# EAGLE library part 4-7SEG (library ioshub)
3461AS 4 Digit 7 segment Display
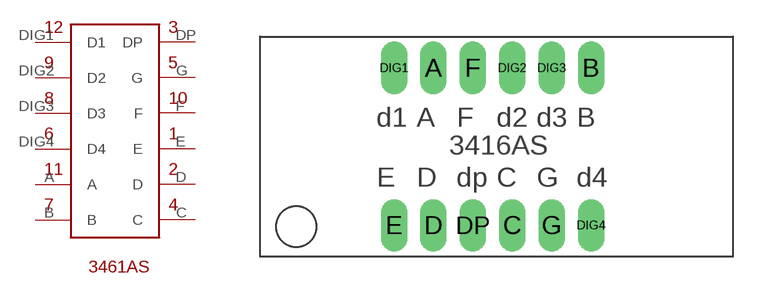
[diagram p3: symbol with the pads of 4-7SEG; footprint 4-7SEG]

Designator prefix -

## 4-7SEG3461AS  [4-7SEG]
A  A
B  B
C  C
D  D
DIG1  D1
DIG2  D2
DIG3  D3
DIG4  D4
DP  DP
E  E
F  F
G  G

## Footprint 4-7SEG (pad centres in mm)
drill 1 pad 1.676 long: A -4,5; B 6,5; C 1,-5; D -4,-5; DIG1 -6.5,5; DIG2 1,5; DIG3 3.5,5; DIG4 6,-5; DP -1.5,-5; E -6.5,-5; F -1.5,5; G 3.5,-5